# Altium schematic symbol library USB_TE_Connectivity_2172034-1.SchLib: 1 symbol
Pins are listed as number, name and electrical type; pins without a type are passive.

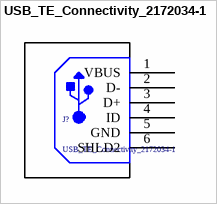
[diagram p0: symbol USB_TE_Connectivity_2172034-1]

## USB_TE_Connectivity_2172034-1
designator J?
USB Connectors MINI USB B, RCPT, R/A, T/H, PBT, Tray; Supplier 1: Mouser; Supplier Part Number 1: 571-2172034-1
footprint USB_TE_Connectivity_2172034-1
pins: 1 VBUS, 2 D-, 3 D+, 4 ID, 5 GND, 6 SHLD2